# Altium footprint library Конденсаторы X2.PcbLib: 4 footprints
Each footprint in its own frame and in the unit in brackets; x right, y up, seen from the top. Pads: shape width x height; smd on the part's side, far side on the other; paste and mask are expansions set on the pad; w line width, h text height; cw(c..) or ccw(c..) is an arc to the next point about the centre after c.
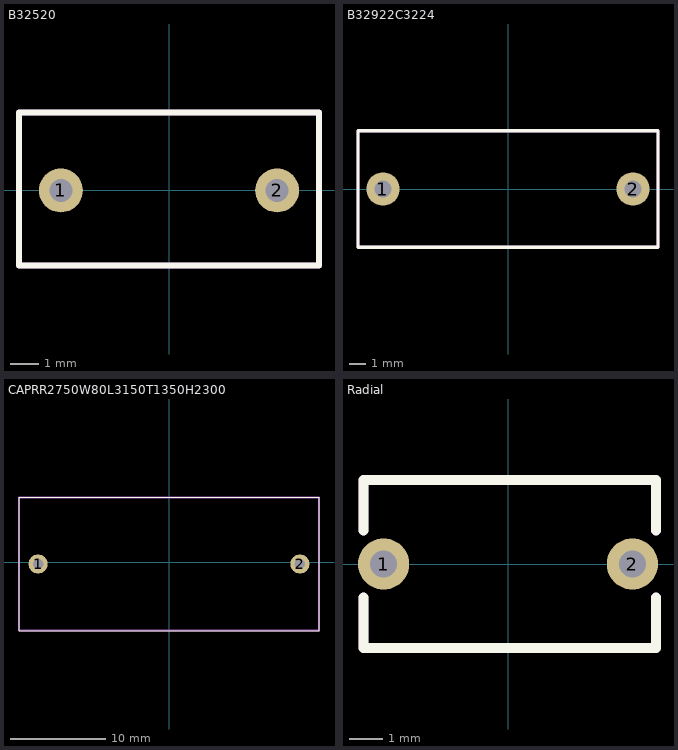
[diagram p0: the footprints below, top view; thin cyan lines are the x and y axes]

## B32520 [mm]
pads (2):
  round 1.524 hole 0.8: 1(-3.75,0) 2(3.75,0)
Top Overlay:
  lines w0.2: -5.2,-2.6 5.2,-2.6 5.2,2.7 -5.2,2.7 -5.2,-2.6
ASSEMBLY_TOP:
  lines w0.2: -5.2,-2.6 -5.2,2.7 5.2,2.7 5.2,-2.6 -5.2,-2.6
  text ".Designator" at -1.4,-0.6 h1.52
3D body "B32520.STEP": height 11.5, standoff -1.7, extent -5,-2.5 5,2.5

## B32922C3224 [mm]
pads (2):
  round 2 hole 1: 1(-7.5,0) 2(7.5,0)
Top Overlay:
  lines w0.2: -9,-3.5 9,-3.5 9,3.5 -9,3.5 -9,-3.5
ASSEMBLY_TOP:
  lines w0.2: -9,-3.5 -9,3.5 9,3.5 9,-3.5 -9,-3.5
  text ".Designator" at -1.4,-0.6 h1.52
3D body "B32922.step": height 13.25, standoff -4.8, extent -9,-3.5 9,3.5

## CAPRR2750W80L3150T1350H2300 [mm] "Epcos"
height 24.5
pads (2):
  round 2 hole 1.1: 1(-13.8,-0.2) 2(13.7,-0.2)
Top Overlay:
  lines w0.1: -15.8,-7.2 -15.8,6.8 15.7,6.8 15.7,-7.2 -15.8,-7.2
ASSEMBLY_TOP:
  lines w0.2: -15.8,-7.2 -15.8,6.8 15.7,6.8 15.7,-7.2 -15.8,-7.2
  text ".Designator" at -3,-0.5 h1.52
3D body "CAPRR2750W80L3150T1350H2300.STEP": height 23.05, standoff -2.05, extent -15.8,-6.95 15.7,6.55

## Radial [mm]
pads (2):
  round 1.524 hole 0.8: 1(-3.7,0) 2(3.7,0)
Top Overlay:
  lines w0.3: -4.3,-1 -4.3,-2.5 4.4,-2.5 4.4,-1 ; -4.3,1 -4.3,2.5 4.4,2.5 4.4,1
ASSEMBLY_TOP:
  lines w0.3: -4.3,-1 -4.3,-2.5 4.4,-2.5 4.4,-1 ; -4.3,1 -4.3,2.5 4.4,2.5 4.4,1
3D body "C717U102MYVDBA7317.step": height 13, standoff -19, extent -4.3,-2.5 4.4,2.505